# Altium schematic symbol library SCH - INTERFACE - NXP UJA1023T.Schlib: 1 symbol
Pins are listed as number, name and electrical type; pins without a type are passive.

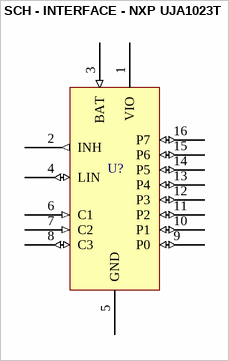
[diagram p0: symbol SCH - INTERFACE - NXP UJA1023T]

## SCH - INTERFACE - NXP UJA1023T
designator U?
footprint SOIC16 - 3.9mm body width (SO16: plastic small outline package; 16 leads; body width 3.9 mm)
pins: 1 VIO, 2 INH (out), 3 BAT (in), 4 LIN (io), 5 GND (power), 6 C1 (in), 7 C2 (in), 8 C3 (io), 9 P0 (io), 10 P1 (io), 11 P2 (io), 12 P3 (io), 13 P4 (io), 14 P5 (io), 15 P6 (io), 16 P7 (io)